# EAGLE library part LPC11U6XJDB48 (library heck)
LPC11U66JBD48: 64KB Flash, 4KB EEPROM, 12KB SRAM, USB, 3 USART, 2 I2C, 2 SSP, 8 12-bit ADC LPC11U67JBD48: 128KB Flash, 4KB EEPROM, 20KB SRAM, USB, 3 USART, 2 I2C, 2 SSP, 8 12-bit ADC LPC11U68JBD48: 256KB Flash, 4KB EEPROM, 36KB SRAM, USB, 3 USART, 2 I2C, 2 SSP, 8 12-bit ADC
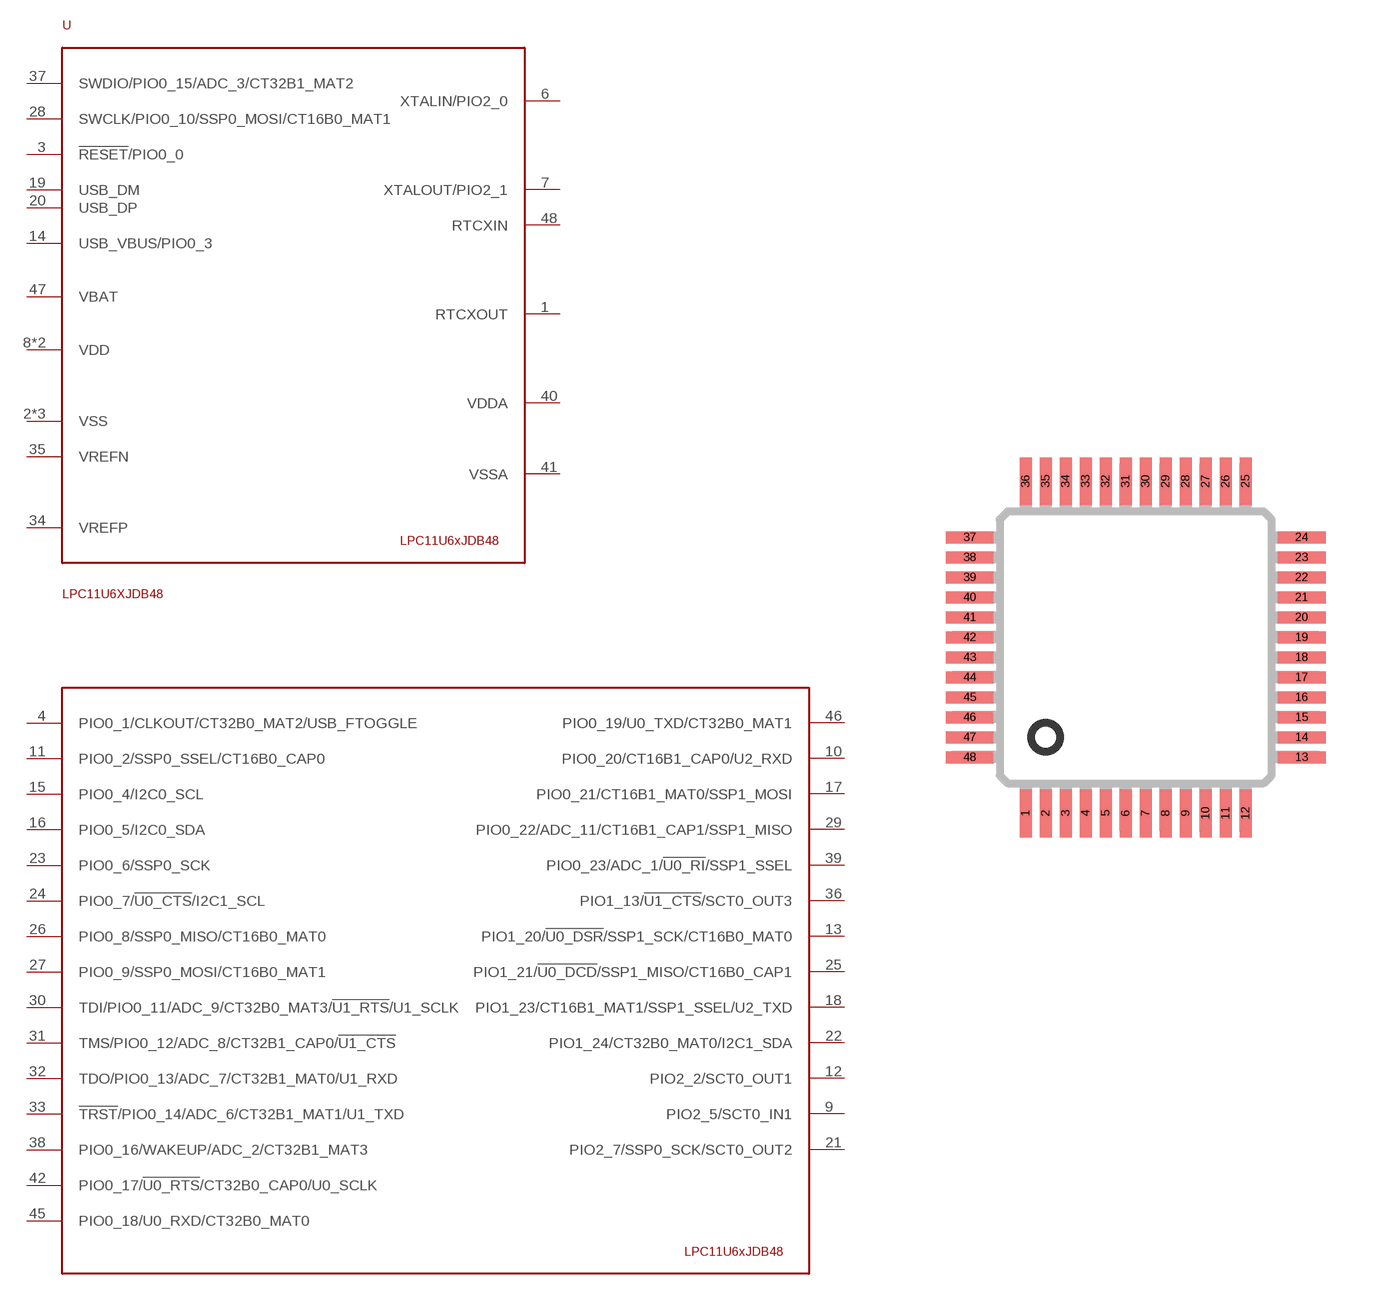
[diagram p0: symbol with the pads of TQFP48_7X7; footprint TQFP48_7X7]

Designator prefix U

## LPC11U6XJDB48  [TQFP48_7X7]
1  RTCXOUT
2  VSS
3  !RESET!/PIO0_0
4  PIO0_1/CLKOUT/CT32B0_MAT2/USB_FTOGGLE
5  VSS
6  XTALIN/PIO2_0
7  XTALOUT/PIO2_1
8  VDD
9  PIO2_5/SCT0_IN1
10  PIO0_20/CT16B1_CAP0/U2_RXD
11  PIO0_2/SSP0_SSEL/CT16B0_CAP0
12  PIO2_2/SCT0_OUT1
13  PIO1_20/!U0_DSR!/SSP1_SCK/CT16B0_MAT0
14  USB_VBUS/PIO0_3
15  PIO0_4/I2C0_SCL
16  PIO0_5/I2C0_SDA
17  PIO0_21/CT16B1_MAT0/SSP1_MOSI
18  PIO1_23/CT16B1_MAT1/SSP1_SSEL/U2_TXD
19  USB_DM
20  USB_DP
21  PIO2_7/SSP0_SCK/SCT0_OUT2
22  PIO1_24/CT32B0_MAT0/I2C1_SDA
23  PIO0_6/SSP0_SCK
24  PIO0_7/!U0_CTS!/I2C1_SCL
25  PIO1_21/!U0_DCD!/SSP1_MISO/CT16B0_CAP1
26  PIO0_8/SSP0_MISO/CT16B0_MAT0
27  PIO0_9/SSP0_MOSI/CT16B0_MAT1
28  SWCLK/PIO0_10/SSP0_MOSI/CT16B0_MAT1
29  PIO0_22/ADC_11/CT16B1_CAP1/SSP1_MISO
30  TDI/PIO0_11/ADC_9/CT32B0_MAT3/!U1_RTS!/U1_SCLK
31  TMS/PIO0_12/ADC_8/CT32B1_CAP0/!U1_CTS!
32  TDO/PIO0_13/ADC_7/CT32B1_MAT0/U1_RXD
33  !TRST!/PIO0_14/ADC_6/CT32B1_MAT1/U1_TXD
34  VREFP
35  VREFN
36  PIO1_13/!U1_CTS!/SCT0_OUT3
37  SWDIO/PIO0_15/ADC_3/CT32B1_MAT2
38  PIO0_16/WAKEUP/ADC_2/CT32B1_MAT3
39  PIO0_23/ADC_1/!U0_RI!/SSP1_SSEL
40  VDDA
41  VSSA
42  PIO0_17/!U0_RTS!/CT32B0_CAP0/U0_SCLK
43  VSS
44  VDD
45  PIO0_18/U0_RXD/CT32B0_MAT0
46  PIO0_19/U0_TXD/CT32B0_MAT1
47  VBAT
48  RTCXIN

## Footprint TQFP48_7X7 (pad centres in mm)
48-Pin LQFP (Case #932) Source: http://www.freescale.com/files/microcontrollers/doc/data_sheet/MC68HC908AP64.pdf
smd 0.3 x 1.2: 1 -2.75,-4.15; 2 -2.25,-4.15; 3 -1.75,-4.15; 4 -1.25,-4.15; 5 -0.75,-4.15; 6 -0.25,-4.15; 7 0.25,-4.15; 8 0.75,-4.15; 9 1.25,-4.15; 10 1.75,-4.15; 11 2.25,-4.15; 12 2.75,-4.15; 25 2.75,4.15; 26 2.25,4.15; 27 1.75,4.15; 28 1.25,4.15; 29 0.75,4.15; 30 0.25,4.15; 31 -0.25,4.15; 32 -0.75,4.15; 33 -1.25,4.15; 34 -1.75,4.15; 35 -2.25,4.15; 36 -2.75,4.15
smd 1.2 x 0.3: 13 4.15,-2.75; 14 4.15,-2.25; 15 4.15,-1.75; 16 4.15,-1.25; 17 4.15,-0.75; 18 4.15,-0.25; 19 4.15,0.25; 20 4.15,0.75; 21 4.15,1.25; 22 4.15,1.75; 23 4.15,2.25; 24 4.15,2.75; 37 -4.15,2.75; 38 -4.15,2.25; 39 -4.15,1.75; 40 -4.15,1.25; 41 -4.15,0.75; 42 -4.15,0.25; 43 -4.15,-0.25; 44 -4.15,-0.75; 45 -4.15,-1.25; 46 -4.15,-1.75; 47 -4.15,-2.25; 48 -4.15,-2.75